# EAGLE library part ADAFRUIT_SHARP_MEMORY_LCD_BREAKOUT (library m_opto)
Adafruit Sharp Memory Display Breakout Use a single row Mill-Max 821-22-009-10-000101 pogo-pin connector or equivalent to connect breakout board to PCB Source: https://github.com/adafruit/Adafruit-Sharp-Memory-Display Product page: https://learn.adafruit.com/adafruit-sharp-memory-display-breakout?view=all Octopart Search <https://octopart.com/search?q=adafruit%203502> Added 2018-09-24
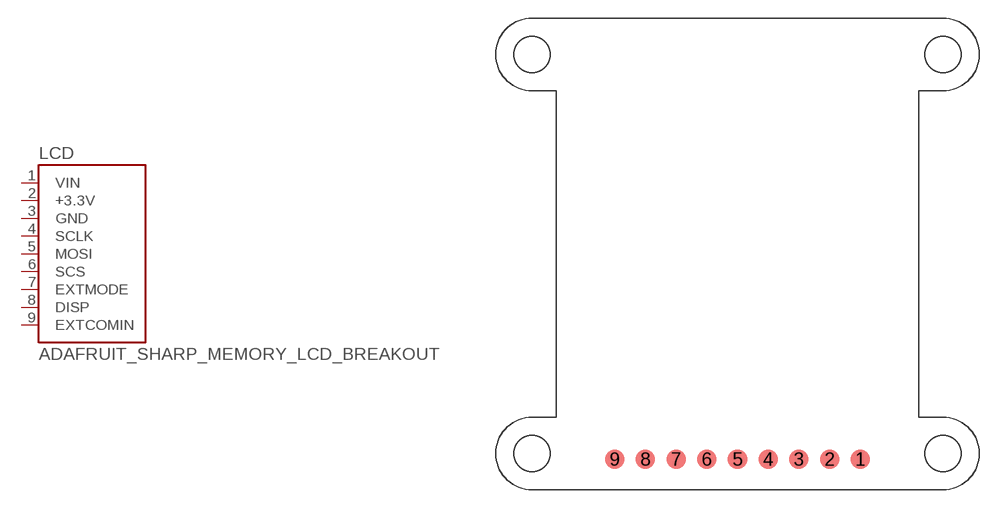
[diagram p7: symbol with the pads of ADAFRUIT_SHARP_MEMORY_LCD_BREAKOUT; footprint ADAFRUIT_SHARP_MEMORY_LCD_BREAKOUT]

Designator prefix LCD

## ADAFRUIT_SHARP_MEMORY_LCD_BREAKOUT (MANUF: Adafruit; PARTNUM: adafruit 3502)  [ADAFRUIT_SHARP_MEMORY_LCD_BREAKOUT]
1  VIN  pas
2  +3.3V  pas
3  GND  pas
4  SCLK  pas
5  MOSI  pas
6  SCS  pas
7  EXTMODE  pas
8  DISP  pas
9  EXTCOMIN  pas

## Footprint ADAFRUIT_SHARP_MEMORY_LCD_BREAKOUT (pad centres in mm)
Adafruit Sharp Memory Display Breakout Use a single row Mill-Max 821-22-009-10-000101 pogo-pin connector or equivalent to connect breakout board to PCB Source: https://github.com/adafruit/Adafruit-Sharp-Memory-Display Note: The pad numbers correspond to the pad numbers of JP1 in the Adafruit schematic. Added 2018-09-24
smd 1.6 x 1.6: 1 10.16,-16.96; 2 7.62,-16.96; 3 5.08,-16.96; 4 2.54,-16.96; 5 0,-16.96; 6 -2.54,-16.96; 7 -5.08,-16.96; 8 -7.62,-16.96; 9 -10.16,-16.96